# EAGLE library part M03X2 (library PaxInstruments-Connectors)
2x3 .1" header. Shrouded, with keying- CONN-10681 SMT- CONN-11415 Pogo pins- HW-11044
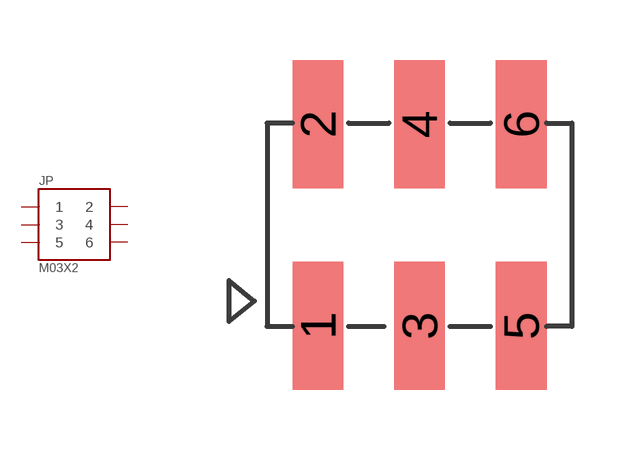
[diagram p3: symbol with the pads of M03X2_SMT; footprint M03X2_SMT]

Designator prefix JP

## M03X2_SMT_2.54MM (MF: FCI; MPN: 95278-101A06LF)  [M03X2_SMT]
1  1
2  2
3  3
4  4
5  5
6  6

## Footprint M03X2_SMT (pad centres in mm)
smd 1.27 x 3.2: 1 -2.54,-2.52; 2 -2.54,2.52; 3 0,-2.52; 4 0,2.52; 5 2.54,-2.52; 6 2.54,2.52